# Altium schematic symbol library Charger.SchLib: 16 symbols
Pins are listed as number, name and electrical type; pins without a type are passive.

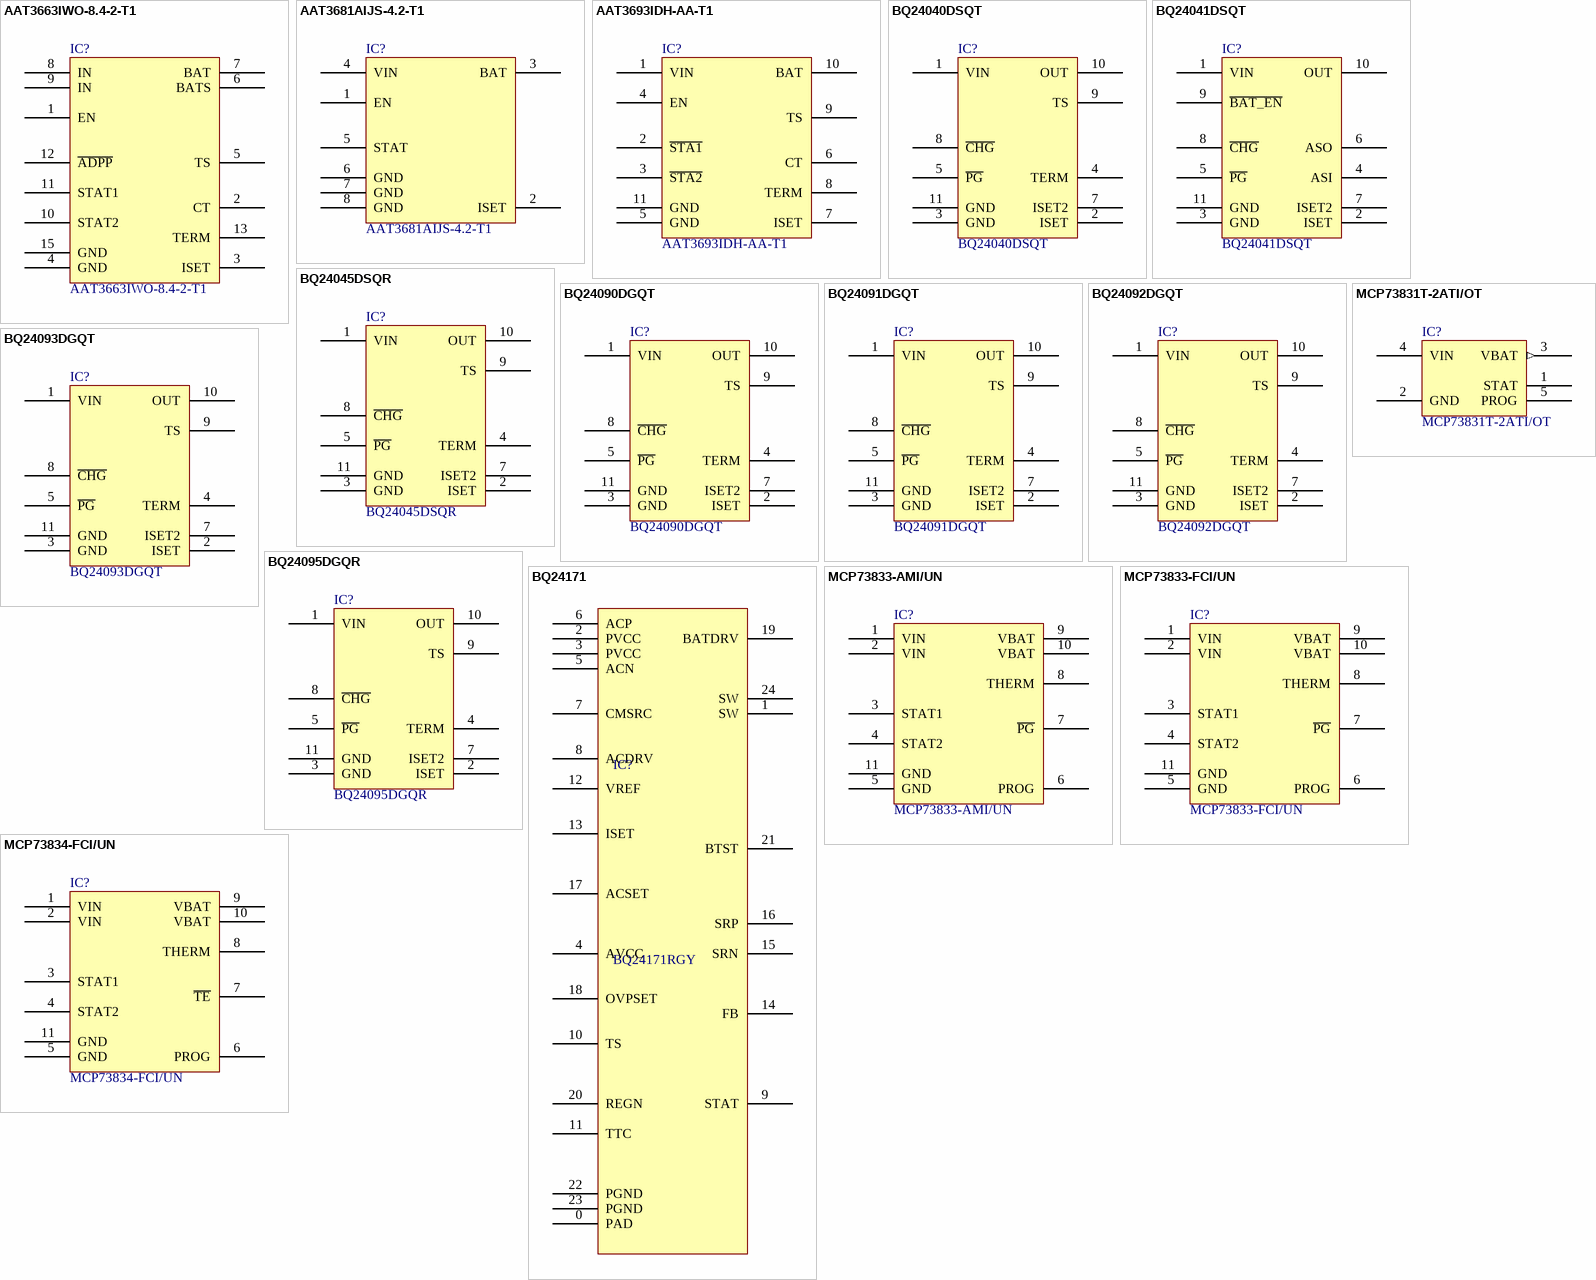
[diagram p0: symbols AAT3663IWO-8.4-2-T1 to MCP73834-FCI/UN]

## AAT3663IWO-8.4-2-T1
designator IC?
IC LI-ION CHARGER 14-DFN; Manufacturer: Skyworks Solutions Inc.; Battery Chemistry: Lithium-Ion/Polymer; Part Number: AAT3663IWO-8.4-2-T1; PartId: 16437; Supplier 1: Digi-Key; Supplier Part Number 1: 863-1544-2-ND; ComponentLink1Description: Datasheet; ComponentLink1URL: http://www.skyworksinc.com/uploads/documents/AAT3663_201878C.pdf; ComponentLink2Description: Digi-Key Listing; ComponentLink2URL: http://www.digikey.com/product-search/en?keywords=863-1544-2-ND; Price: 0.76; Type: PMIC - Battery Chargers; Device Package: 14-WFDFN Exposed Pad; Series: BatteryManager; Operating Temperature: -40C ~ 85C (TA)
footprint SKYWORKS TDFN-14 3x3MM
pins: 1 EN, 2 CT, 3 ISET, 4 GND, 5 TS, 6 BATS, 7 BAT, 8 IN, 9 IN, 10 STAT2, 11 STAT1, 12 ~{ADPP}, 13 TERM, 15 GND

## AAT3681AIJS-4.2-T1
designator IC?
LI ION USB/ADP CHRGR SC70JW-8; Manufacturer: Skyworks Solutions Inc.; Function: Charge Management; Battery Chemistry: Li-Ion, Li-Pol; Voltage Supply: 4 V ~ 7.5 V; Part Number: AAT3681AIJS-4.2-T1; PartId: 9318; Supplier 1: Digi-Key; Supplier Part Number 1: 863-1510-2-ND; ComponentLink1Description: Datasheet; ComponentLink1URL: http://www.skyworksinc.com/uploads/documents/AAT3681A_201883C.pdf; ComponentLink2Description: Digi-Key Listing; ComponentLink2URL: http://www.digikey.com/product-detail/en/AAT3681AIJS-4.2-T1/863-1510-2-ND/4246163; Price: 0.33; Device Package: 8-TFSOJ (0.069", 1.75mm Width); Series: -; Operating Temperature: -40C ~ 85C
footprint SKYWORKS SC70JW-8
pins: 1 EN, 2 ISET, 3 BAT, 4 VIN, 5 STAT, 6 GND, 7 GND, 8 GND

## AAT3693IDH-AA-T1
designator IC?
1.6A LINEAR LI-ION CHGR 10TDFN; Manufacturer: Skyworks Solutions Inc.; Function: Charge Management; Battery Chemistry: Li-Ion, Li-Pol; Voltage Supply: 4 V ~ 7.5 V; Part Number: AAT3693IDH-AA-T1; PartId: 9301; Supplier 1: Digi-Key; Supplier Part Number 1: 863-1512-2-ND; ComponentLink1Description: Datasheet; ComponentLink1URL: http://www.skyworksinc.com/uploads/documents/AAT3693_201896C.pdf; ComponentLink2Description: Digi-Key Listing; ComponentLink2URL: http://www.digikey.com/product-detail/en/AAT3693IDH-AA-T1/863-1512-2-ND/4246165; Price: 0.36; Device Package: 10-WFDFN Exposed Pad; Operating Temperature: -40C ~ 85C
footprint SKYWORKS TDFN-14 2.2x2.2mm
pins: 1 VIN, 2 ~{STA1}, 3 ~{STA2}, 4 EN, 5 GND, 6 CT, 7 ISET, 8 TERM, 9 TS, 10 BAT, 11 GND

## BQ24040DSQT
designator IC?
IC LI-ION CHRG 800MA 6.6V 10SON; Manufacturer: Texas Instruments; Function: Charge Management; Battery Chemistry: Li-Ion, Li-Pol; Voltage Supply: 3.5 V ~ 28 V; Part Number: BQ24040DSQT; PartId: 9307; Supplier 1: Digi-Key; Supplier Part Number 1: 296-25136-2-ND; ComponentLink1Description: Datasheet; ComponentLink1URL: http://www.ti.com/lit/ds/symlink/bq24040.pdf; ComponentLink2Description: Digi-Key Listing; ComponentLink2URL: http://www.digikey.com/product-detail/en/BQ24040DSQT/296-25136-2-ND/2165906; Price: 0.9352; Device Package: 10-WFDFN Exposed Pad; Series: -; Operating Temperature: -40C ~ 85C
footprint TI PWSON-10 DSQ
pins: 1 VIN, 2 ISET, 3 GND, 4 TERM, 5 ~{PG}, 7 ISET2, 8 ~{CHG}, 9 TS, 10 OUT, 11 GND

## BQ24041DSQT
designator IC?
IC LI-ION CHRG 800MA 7.1V 10SON; Manufacturer: Texas Instruments; Function: Charge Management; Battery Chemistry: Li-Ion, Li-Pol; Voltage Supply: 3.5 V ~ 28 V; Part Number: BQ24041DSQT; PartId: 9309; Supplier 1: Digi-Key; Supplier Part Number 1: 296-25137-2-ND; ComponentLink1Description: Datasheet; ComponentLink1URL: http://www.ti.com/lit/ds/symlink/bq24040.pdf; ComponentLink2Description: Digi-Key Listing; ComponentLink2URL: http://www.digikey.com/product-detail/en/BQ24041DSQT/296-25137-2-ND/2165907; Price: 0.9352; Device Package: 10-WFDFN Exposed Pad; Series: -; Operating Temperature: -
footprint TI PWSON-10 DSQ
pins: 1 VIN, 2 ISET, 3 GND, 4 ASI, 5 ~{PG}, 6 ASO, 7 ISET2, 8 ~{CHG}, 9 ~{BAT_EN}, 10 OUT, 11 GND

## BQ24045DSQR
designator IC?
IC BATTERY CHARGER LI-ION 10SON; Manufacturer: Texas Instruments; Function: Charge Management; Battery Chemistry: Li-Ion, Li-Pol; Voltage Supply: 3.5 V ~ 28 V; Part Number: BQ24045DSQR; PartId: 9308; Supplier 1: Digi-Key; Supplier Part Number 1: 296-39905-1-ND; ComponentLink1Description: Datasheet; ComponentLink1URL: http://www.ti.com/lit/ds/symlink/bq24045.pdf; ComponentLink2Description: Digi-Key Listing; ComponentLink2URL: http://www.digikey.com/product-detail/en/BQ24045DSQR/296-39905-1-ND/5177782; Price: 1.29; Device Package: 10-WFDFN Exposed Pad; Series: -; Operating Temperature: -
footprint TI PWSON-10 DSQ
pins: 1 VIN, 2 ISET, 3 GND, 4 TERM, 5 ~{PG}, 7 ISET2, 8 ~{CHG}, 9 TS, 10 OUT, 11 GND

## BQ24090DGQT
designator IC?
IC BATT CHRGR LI-ION 10MSOP; Manufacturer: Texas Instruments; Function: Charge Management; Battery Chemistry: Li-Ion, Li-Pol; Voltage Supply: 4.45 V ~ 6.45 V; Part Number: BQ24090DGQT; PartId: 9302; Supplier 1: Digi-Key; Supplier Part Number 1: 296-25863-2-ND; ComponentLink1Description: Datasheet; ComponentLink1URL: http://www.ti.com/lit/ds/symlink/bq24092.pdf; ComponentLink2Description: Digi-Key Listing; ComponentLink2URL: http://www.digikey.com/product-detail/en/BQ24090DGQT/296-25863-2-ND/2237296; Price: 0.8901; Device Package: 10-TFSOP, 10-MSOP (0.118", 3.00mm Width) EP; Series: -; Operating Temperature: -40C ~ 150C
footprint TI PDSO-10 DCQ
pins: 1 VIN, 2 ISET, 3 GND, 4 TERM, 5 ~{PG}, 7 ISET2, 8 ~{CHG}, 9 TS, 10 OUT, 11 GND

## BQ24091DGQT
designator IC?
IC BATT CHRGR LI-ION 10MSOP; Manufacturer: Texas Instruments; Function: Charge Management; Battery Chemistry: Li-Ion, Li-Pol; Voltage Supply: 4.45 V ~ 6.45 V; Part Number: BQ24091DGQT; PartId: 9304; Supplier 1: Digi-Key; Supplier Part Number 1: 296-25864-1-ND; ComponentLink1Description: Datasheet; ComponentLink1URL: http://www.ti.com/lit/ds/symlink/bq24092.pdf; ComponentLink2Description: Digi-Key Listing; ComponentLink2URL: http://www.digikey.com/product-detail/en/BQ24091DGQT/296-25864-1-ND/2237302; Price: 1.41; Device Package: 10-TFSOP, 10-MSOP (0.118", 3.00mm Width) EP; Series: -; Operating Temperature: -40C ~ 150C
footprint TI PDSO-10 DCQ
pins: 1 VIN, 2 ISET, 3 GND, 4 TERM, 5 ~{PG}, 7 ISET2, 8 ~{CHG}, 9 TS, 10 OUT, 11 GND

## BQ24092DGQT
designator IC?
IC BATT CHARGER LI-ION 10MSOP; Manufacturer: Texas Instruments; Function: Charge Management; Battery Chemistry: Li-Ion, Li-Pol; Voltage Supply: 4.45 V ~ 6.45 V; Part Number: BQ24092DGQT; PartId: 9303; Supplier 1: Digi-Key; Supplier Part Number 1: 296-27510-2-ND; ComponentLink1Description: Datasheet; ComponentLink1URL: http://www.ti.com/lit/ds/symlink/bq24092.pdf; ComponentLink2Description: Digi-Key Listing; ComponentLink2URL: http://www.digikey.com/product-detail/en/BQ24092DGQT/296-27510-2-ND/2325817; Price: 0.8901; Device Package: 10-TFSOP, 10-MSOP (0.118", 3.00mm Width) EP; Series: -; Operating Temperature: -40C ~ 150C
footprint TI PDSO-10 DCQ
pins: 1 VIN, 2 ISET, 3 GND, 4 TERM, 5 ~{PG}, 7 ISET2, 8 ~{CHG}, 9 TS, 10 OUT, 11 GND

## BQ24093DGQT
designator IC?
IC BATT CHARGER LI-ION 10MSOP; Manufacturer: Texas Instruments; Function: Charge Management; Battery Chemistry: Li-Ion, Li-Pol; Voltage Supply: 4.45 V ~ 6.45 V; Part Number: BQ24093DGQT; PartId: 9305; Supplier 1: Digi-Key; Supplier Part Number 1: 296-27511-1-ND; ComponentLink1Description: Datasheet; ComponentLink1URL: http://www.ti.com/lit/ds/symlink/bq24093.pdf; ComponentLink2Description: Digi-Key Listing; ComponentLink2URL: http://www.digikey.com/product-detail/en/BQ24093DGQT/296-27511-1-ND/2325835; Price: 1.41; Device Package: 10-TFSOP, 10-MSOP (0.118", 3.00mm Width) EP; Series: -; Operating Temperature: -40C ~ 150C
footprint TI PDSO-10 DCQ
pins: 1 VIN, 2 ISET, 3 GND, 4 TERM, 5 ~{PG}, 7 ISET2, 8 ~{CHG}, 9 TS, 10 OUT, 11 GND

## BQ24095DGQR
designator IC?
IC BATT CHRGR LI-ION/POL 10MSOP; Manufacturer: Texas Instruments; Function: Charge Management; Battery Chemistry: Li-Ion, Li-Pol; Voltage Supply: 4.45 V ~ 6.45 V; Part Number: BQ24095DGQR; PartId: 9306; Supplier 1: Digi-Key; Supplier Part Number 1: 296-39906-1-ND; ComponentLink1Description: Datasheet; ComponentLink1URL: http://www.ti.com/lit/ds/symlink/bq24095.pdf; ComponentLink2Description: Digi-Key Listing; ComponentLink2URL: http://www.digikey.com/product-detail/en/BQ24095DGQR/296-39906-1-ND/5177783; Price: 1.22; Device Package: 10-TFSOP, 10-MSOP (0.118", 3.00mm Width) EP; Series: -; Operating Temperature: 0C ~ 125C
footprint TI PDSO-10 DCQ
pins: 1 VIN, 2 ISET, 3 GND, 4 TERM, 5 ~{PG}, 7 ISET2, 8 ~{CHG}, 9 TS, 10 OUT, 11 GND

## BQ24171
designator IC?, comment BQ24171RGY
IC BATT CHARGE LI-ION/POL 24VQFN; Manufacturer: Texas Instruments; Function: Charge Management; Battery Chemistry: Li-Ion, Li-Pol; Voltage Supply: 4.5V ~ 17V; Part Number: BQ24171RGY; PartId: 9306; Supplier 1: Digi-Key; Supplier Part Number 1: 296-41205-2-ND; ComponentLink1Description: Datasheet; ComponentLink1URL: http://www.ti.com/lit/ds/symlink/bq24171.pdf; ComponentLink2Description: Digi-Key Listing; ComponentLink2URL: https://www.digikey.com/products/en/integrated-circuits-ics/pmic-battery-chargers/781?k=bq24171; Price: 4.08; Device Package: 24-VFQFN Exposed Pad; Series: -; Operating Temperature: -40°C ~ 85°C
footprint TI PVQFN 24 (QFN, 24-Leads, Body 5.50x3.50mm, Pitch 0.50mm/1.50mm, Thermal Pad 4.25x2.10mm, IPC Medium Density)
pins: 0 PAD, 1 SW, 2 PVCC, 3 PVCC, 4 AVCC, 5 ACN, 6 ACP, 7 CMSRC, 8 ACDRV, 9 STAT, 10 TS, 11 TTC, 12 VREF, 13 ISET, 14 FB, 15 SRN, 16 SRP, 17 ACSET, 18 OVPSET, 19 BATDRV, 20 REGN, 21 BTST, 22 PGND, 23 PGND, 24 SW

## MCP73831T-2ATI/OT
designator IC?
IC CONTROLLR LI-ION 4.2V SOT23-5; Manufacturer: Microchip Technology; Function: Charge Management; Battery Chemistry: Li-Ion, Li-Pol; Voltage Supply: 3.75 V ~ 6 V; Part Number: MCP73831T-2ATI/OT; PartId: 9704; Supplier 1: Digi-Key; Supplier Part Number 1: MCP73831T-2ATI/OTTR-ND; ComponentLink1Description: Datasheet; ComponentLink1URL: http://www.microchip.com/mymicrochip/filehandler.aspx?ddocname=en026002; ComponentLink2Description: Digi-Key Listing; ComponentLink2URL: http://www.digikey.com/product-detail/en/microchip-technology/MCP73831T-2ATI%2FOT/MCP73831T-2ATI%2FOTTR-ND/964303; Price: 0.42; Device Package: SC-74A, SOT-753; Series: -; Operating Temperature: -40C ~ 85C
footprint MICROCHIP SOT-23-5 OT
pins: 1 STAT, 2 GND, 3 VBAT (out), 4 VIN, 5 PROG

## MCP73833-AMI/UN
designator IC?
IC LI-ION/LI-POLY CTRLR 10MSOP; Manufacturer: Microchip Technology; Function: Charge Management; Battery Chemistry: Li-Ion, Li-Pol; Voltage Supply: 3.75 V ~ 6 V; Part Number: MCP73833-AMI/UN; PartId: 9315; Supplier 1: Digi-Key; Supplier Part Number 1: MCP73833-AMI/UN-ND; ComponentLink1Description: Datasheet; ComponentLink1URL: http://www.microchip.com/mymicrochip/filehandler.aspx?ddocname=en026002; ComponentLink2Description: Digi-Key Listing; ComponentLink2URL: http://www.digikey.com/product-detail/en/MCP73833-AMI%2FUN/MCP73833-AMI%2FUN-ND/1223157; Price: 0.85; Device Package: 10-TFSOP, 10-MSOP (0.118", 3.00mm Width); Series: -; Operating Temperature: -40C ~ 85C
footprint MICROCHIP MSOP-10 UN
pins: 1 VIN, 2 VIN, 3 STAT1, 4 STAT2, 5 GND, 6 PROG, 7 ~{PG}, 8 THERM, 9 VBAT, 10 VBAT, 11 GND

## MCP73833-FCI/UN
designator IC?
IC LI-ION/LI-POLY CTRLR 10MSOP; Manufacturer: Microchip Technology; Function: Charge Management; Battery Chemistry: Li-Ion, Li-Pol; Voltage Supply: 3.75 V ~ 6 V; Part Number: MCP73833-FCI/UN; PartId: 9316; Supplier 1: Digi-Key; Supplier Part Number 1: MCP73833-FCI/UN-ND; ComponentLink1Description: Datasheet; ComponentLink1URL: http://www.microchip.com/mymicrochip/filehandler.aspx?ddocname=en026002; ComponentLink2Description: Digi-Key Listing; ComponentLink2URL: http://www.digikey.com/product-detail/en/MCP73833-FCI%2FUN/MCP73833-FCI%2FUN-ND/1223175; Price: 0.85; Device Package: 10-TFSOP, 10-MSOP (0.118", 3.00mm Width); Series: -; Operating Temperature: -40C ~ 85C
footprint MICROCHIP MSOP-10 UN
pins: 1 VIN, 2 VIN, 3 STAT1, 4 STAT2, 5 GND, 6 PROG, 7 ~{PG}, 8 THERM, 9 VBAT, 10 VBAT, 11 GND

## MCP73834-FCI/UN
designator IC?
IC LI-ION/LI-POLY CTRLR 10MSOP; Manufacturer: Microchip Technology; Function: Charge Management; Battery Chemistry: Li-Ion, Li-Pol; Voltage Supply: 3.75 V ~ 6 V; Part Number: MCP73834-FCI/UN; PartId: 9317; Supplier 1: Digi-Key; Supplier Part Number 1: MCP73834-FCI/UN-ND; ComponentLink1Description: Datasheet; ComponentLink1URL: http://www.microchip.com/mymicrochip/filehandler.aspx?ddocname=en026002; ComponentLink2Description: Digi-Key Listing; ComponentLink2URL: http://www.digikey.com/product-detail/en/MCP73834-FCI%2FUN/MCP73834-FCI%2FUN-ND/1223213; Price: 0.85; Device Package: 10-TFSOP, 10-MSOP (0.118", 3.00mm Width); Series: -; Operating Temperature: -40C ~ 85C
footprint MICROCHIP MSOP-10 UN
pins: 1 VIN, 2 VIN, 3 STAT1, 4 STAT2, 5 GND, 6 PROG, 7 ~{TE}, 8 THERM, 9 VBAT, 10 VBAT, 11 GND